# Altium schematic symbol library SnapEDAsch.SchLib: 1 symbol
Pins are listed as number, name and electrical type; pins without a type are passive.

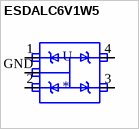
[diagram p0: symbol ESDALC6V1W5]

## ESDALC6V1W5
designator U
Clamp Ipp Tvs Diode Surface Mount SOT-323-5; MP: ESDALC6V1W5; MF: STMicroelectronics; Price: None; Package: SOT-323 STMicroelectronics; Value: *; Availability: Unavailable; SnapEDA_Link: https://www.snapeda.com/parts/ESDALC6V1W5/STMicroelectronics/view-part/453274/?ref=snap
footprint SOT323-5L
pins: 1 I/01 (io), 2 I/02 (io), 3 I/03 (io), 4 I/04 (io), GND (power)